# Altium footprint library ESP32-Relay-Module.PcbLib: 41 footprints (part 1 of 3)
Each footprint in its own frame and in the unit in brackets; x right, y up, seen from the top. Pads: shape width x height; smd on the part's side, far side on the other; paste and mask are expansions set on the pad; w line width, h text height; cw(c..) or ccw(c..) is an arc to the next point about the centre after c.
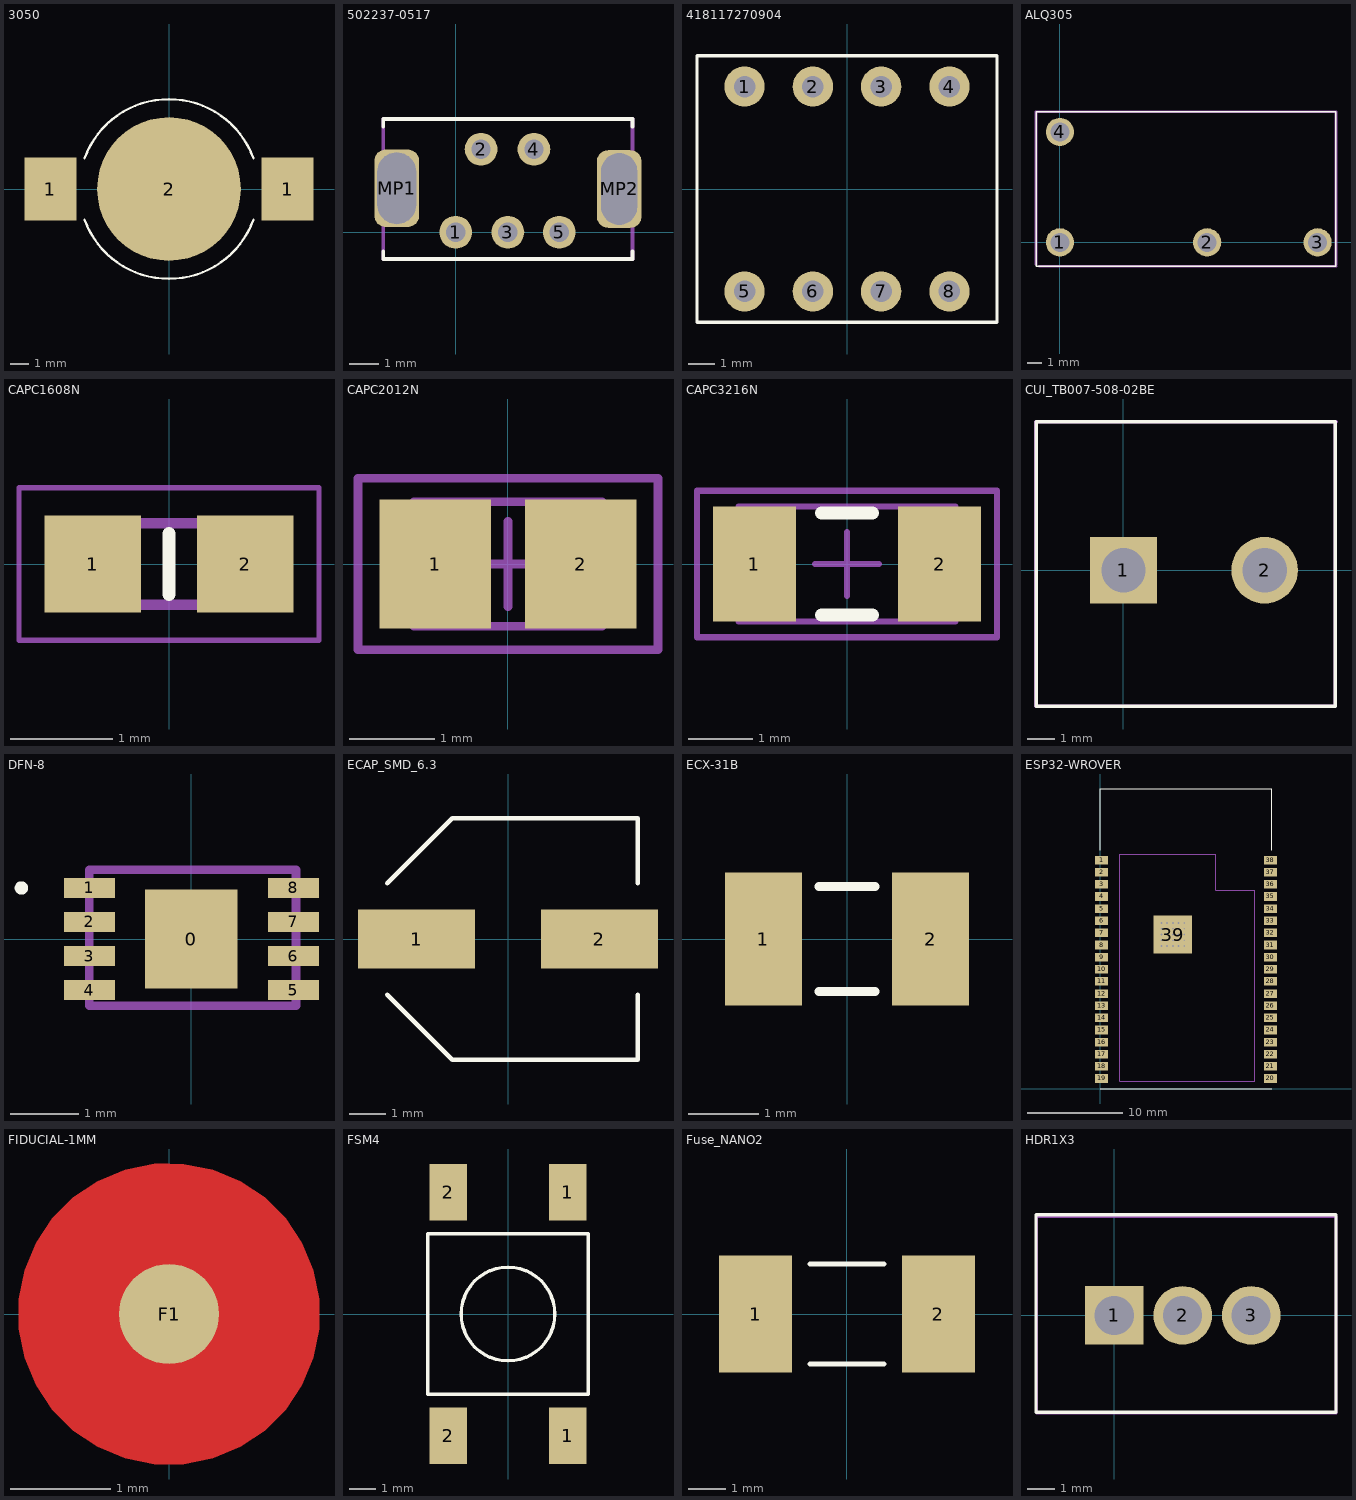
[diagram p0: the footprints below, top view; thin cyan lines are the x and y axes]

## 3050 [mm]
pads (3):
  rect 2.9x3.5 smd mask+0.05: 1(-6.6,0) 1(6.6,0)
  round 8 smd mask+0.05: 2(0,0)
Top Overlay:
  lines w0.127: -4.698,-1.71 ccw(c0,0) 4.698,-1.71 ; -4.698,1.71 cw(c0,0) 4.698,1.71
3D body "CR1025.STEP": height 2.5, standoff 0, extent -5,-5 5,5
3D body "keystone-PN3050.STEP": height 2.95, standoff 0, extent -8.052,-4.608 8.053,4

## 502237-0517 [mm]
pads (7):
  round 1.1 hole 0.65: 1(0,0) 2(0.85,2.783) 3(1.75,0) 4(2.625,2.783) 5(3.475,0)
  rrect50% 1.5x2.6 hole 2.4 slot 1.3 at 0 deg: MP1(-1.975,1.475)
  rrect50% 1.5x2.6 hole 2.4 slot 1.2 at 0 deg: MP2(5.484,1.45)
Top Overlay:
  lines w0.127: -2.425,-0.646 -2.425,-0.9 5.925,-0.9 5.925,-0.646 ; -2.425,3.545 -2.425,3.8 5.925,3.8 5.925,3.545
Mechanical 15:
  lines w0.127: -2.425,-0.9 -2.425,3.8 5.925,3.8 5.925,-0.9 -2.425,-0.9
3D body "5022370517.stp": height 7.9, standoff -2.7, extent -2.425,-0.9 5.925,3.8

## 418117270904 [mm]
pads (8):
  round 1.5 hole 0.8 mask+0.05: 1(-3.81,3.81) 2(-1.27,3.81) 3(1.27,3.81) 4(3.81,3.81) 5(-3.81,-3.81) 6(-1.27,-3.81) 7(1.27,-3.81) 8(3.81,-3.81)
Top Overlay:
  lines w0.127: -5.58,-4.95 -5.58,4.95 5.58,4.95 5.58,-4.95 -5.58,-4.95
3D body "418117270904_Download_STP_418117270904_rev1.stp": height 6.9, standoff -3.65, extent -5.58,-4.95 5.58,4.95

## ALQ305 [mm]
pads (4):
  round 1.95 hole 1.3: 1(0,0) 2(10.16,0) 3(17.78,0) 4(0,7.62)
Top Overlay:
  lines w0.1: -1.651,-1.651 -1.651,9.017 19.05,9.017 19.05,-1.651 -1.651,-1.651
Mechanical 15:
  lines w0.2: -1.651,-1.524 -1.651,9.017 19.05,9.017 19.05,-1.524 ; -1.397,-1.651 19.05,-1.651
3D body "ALQ305.stp": height 15.1, standoff -5, extent -1.245,-1.317 18.755,8.683

## CAPC1608N [mm]
pads (2):
  rrect0% 0.95x0.95 smd: 1(-0.75,0) 2(0.75,0)
Top Overlay:
  lines w0.127: 0,-0.3 0,0.3
Mechanical 15:
  lines w0.05: -1.475,-0.75 -1.475,0.75 1.475,0.75 1.475,-0.75 -1.475,-0.75
  lines w0.1: -0.8,-0.4 0.8,-0.4 0.8,0.4 -0.8,0.4 -0.8,-0.4
3D body "UMK107BJ105KA-T.stp": height 0.81, standoff 0.01, extent -0.85,-0.45 0.75,0.45

## CAPC2012N [mm] "Chip Capacitor, Body 2.0x1.3mm, IPC Medium Density"
height 1.1
pads (2):
  rect 1.3x1.5 smd: 1(-0.85,0) 2(0.85,0)
Mechanical 13:
  lines w0.1: -1.1,-0.725 -1.1,0.725 1.1,0.725 1.1,-0.725 -1.1,-0.725
Mechanical 15:
  lines w0.1: -0.5,0 0.5,0 ; 0,-0.5 0,0.5 ; -1.75,-1 -1.75,1 1.75,1 1.75,-1 -1.75,-1
3D body: height 1.1, standoff 0, extent -1.1,-0.725 1.1,0.725

## CAPC3216N [mm] "Chip Capacitor, Body 3.2x1.6mm, IPC Medium Density"
height 1.35
pads (2):
  rect 1.3x1.8 smd: 1(-1.45,0) 2(1.45,0)
Top Overlay:
  lines w0.2: -0.4,-0.8 0.4,-0.8 ; -0.4,0.8 0.4,0.8
Mechanical 13:
  lines w0.1: -1.7,-0.9 -1.7,0.9 1.7,0.9 1.7,-0.9 -1.7,-0.9
Mechanical 15:
  lines w0.1: -0.5,0 0.5,0 ; 0,-0.5 0,0.5 ; -2.35,-1.15 -2.35,1.15 2.35,1.15 2.35,-1.15 -2.35,-1.15
3D body: height 1.35, standoff 0, extent -1.7,-0.9 1.7,0.9

## CUI_TB007-508-02BE [mm]
pads (2):
  rect 2.4x2.4 hole 1.6: 1(0,0)
  round 2.4 hole 1.6: 2(5.08,0)
Top Overlay:
  lines w0.127: -3.14,-4.9 -3.14,5.35 7.62,5.35 7.62,-4.9 -3.14,-4.9
Mechanical 13:
  lines w0.127: -3.15,-4.9 -3.15,5.35 7.62,5.35 7.62,-4.9 -3.15,-4.9
Mechanical 15:
  lines w0.05: -3.14,5.35 -3.14,-4.9 7.65,-4.9 7.65,5.35
  lines w0.127: -3.14,5.35 7.65,5.35
3D body "CUI_DEVICES_TB007-508-02BE.step": height 14, standoff -3.7, extent -3.14,-4.9 7.62,5.35

## DFN-8 [mm]
pads (9):
  rect 1.36x1.46 smd mask+0.05: 0(0,0)
  rect 0.75x0.3 smd mask+0.05: 1(-1.5,0.75) 2(-1.5,0.25) 3(-1.5,-0.25) 4(-1.5,-0.75) 5(1.5,-0.75) 6(1.5,-0.25) 7(1.5,0.25) 8(1.5,0.75)
Top Overlay:
  circle w0.127: c-2.5,0.75 r0.035
Mechanical 15:
  lines w0.127: -1.502,-0.981 -1.502,1.019 1.538,1.019 1.538,-0.981 -1.502,-0.981
3D body "User Library-DFN-8-2.step": height 0.89, standoff -0.01, extent -1.502,-0.981 1.538,1.019

## ECAP_SMD_6.3 [mm]
pads (2):
  rect 3.2x1.6 smd: 1(-2.5,0) 2(2.5,0)
Top Overlay:
  lines w0.127: -3.3,-1.526 -1.526,-3.3 3.55,-3.3 3.55,-1.524 ; -3.3,1.526 -1.526,3.3 3.55,3.3 3.55,1.524
3D body "CAPSMD6_3x3_9.STEP": height 3.91, standoff 0, extent -3.48,-3.3 3.52,3.3

## ECX-31B [mm]
pads (2):
  rect 1.1x1.9 smd mask+0.05: 1(-1.194,0) 2(1.194,0)
Top Overlay:
  lines w0.127: -0.4,-0.75 0.4,-0.75 ; -0.4,0.75 0.4,0.75
3D body "User Library-ECX-31B.STEP": height 0.9, standoff 0, extent -1.6,-0.737 1.6,0.764

## ESP32-WROVER [mm]
pads (64):
  rect 1.35x0.9 smd mask+0.07: 1(0.175,23.96) 2(0.175,22.69) 3(0.175,21.42) 4(0.175,20.15) 5(0.175,18.88) 6(0.175,17.61) 7(0.175,16.34) 8(0.175,15.07) 9(0.175,13.8) 10(0.175,12.53) 11(0.175,11.26) 12(0.175,9.99) 13(0.175,8.72) 14(0.175,7.45) 15(0.175,6.18) 16(0.175,4.91) 17(0.175,3.64) 18(0.175,2.37) 19(0.175,1.1) 20(17.825,1.1) 21(17.825,2.37) 22(17.825,3.64) 23(17.825,4.91) 24(17.825,6.18) 25(17.825,7.45) 26(17.825,8.72) 27(17.825,9.99) 28(17.825,11.26) 29(17.825,12.53) 30(17.825,13.8) 31(17.825,15.07) 32(17.825,16.34) 33(17.825,17.61) 34(17.825,18.88) 35(17.825,20.15) 36(17.825,21.42) 37(17.825,22.69) 38(17.825,23.96)
  round 0.3 hole 0.2 mask+0.07: 39(6.42,14.97) 39(6.42,15.57) 39(6.42,16.17) 39(6.42,16.77) 39(6.42,17.37) 39(7.02,14.97) 39(7.02,15.57) 39(7.02,16.17) 39(7.02,16.77) 39(7.02,17.37) 39(7.62,14.97) 39(7.62,15.57) 39(7.62,16.17) 39(7.62,16.77) 39(7.62,17.37) 39(8.22,14.97) 39(8.22,15.57) 39(8.22,16.17) 39(8.22,16.77) 39(8.22,17.37) 39(8.82,14.97) 39(8.82,15.57) 39(8.82,16.17) 39(8.82,16.77) 39(8.82,17.37)
  rect 4x4 smd mask+0.07: 39(7.62,16.17)
Top Overlay:
  lines w0.127: 0,0 18,0 ; 0,25 0,31.4 18,31.4 18,25
Mechanical 13:
  lines w0.127: 2.057,0.813 16.18,0.813 16.18,20.777 12.09,20.777 12.09,24.587 2.057,24.587 2.057,0.813
3D body "ESP32-WROVER-I--3DModel-STEP-56544.STEP": height 3.65, standoff 0, extent 0,0 18,31.4

## FIDUCIAL-1MM [mm] "1MM FIDUCAL MARKER"
pads (1):
  round 1 smd paste-1 mask+0.5: F1(0,0)
Top Layer:
  pour cut-out: -1.5,0 -1.5,-0.148 -1.442,-0.438 -1.329,-0.711 -1.165,-0.956 -0.956,-1.165 -0.711,-1.329 -0.438,-1.442 -0.148,-1.5 0,-1.5 0.148,-1.5 0.438,-1.442 0.711,-1.329 0.956,-1.165 1.165,-0.956 1.329,-0.711 1.442,-0.438 1.5,-0.148 1.5,0 1.5,0.148 1.442,0.438 1.329,0.711 1.165,0.956 0.956,1.165 0.711,1.329 0.438,1.442 0.148,1.5 0,1.5 -0.148,1.5 -0.438,1.442 -0.711,1.329 -0.956,1.165 -1.165,0.956 -1.329,0.711 -1.442,0.438 -1.5,0.148

## FSM4 [mm]
pads (4):
  rect 1.4x2.1 smd mask+0.07: 1(2.23,-4.55) 1(2.23,4.55) 2(-2.23,-4.55) 2(-2.23,4.55)
Top Overlay:
  circle w0.127: c0,0 r1.75
  lines w0.127: -3,-3 3,-3 3,3 -3,3 -3,-3
3D body "c-4-1437565-2-s-3d.stp": height 5.1, standoff 0.02, extent -3,-5 3,5

## Fuse_NANO2 [mm]
pads (2):
  rect 1.96x3.15 smd mask+0.07: 1(-2.455,0) 2(2.455,0)
Top Overlay:
  lines w0.127: -1,-1.345 1,-1.345 ; -1,1.345 1,1.345
3D body "User Library-FUSE_NANO2.step": height 2.7, standoff 0, extent -3.05,-1.35 3.05,1.35

## HDR1X3 [mm]
pads (3):
  rect 2.175x2.175 / inner round 2.175 / far side rect 2.175x2.175 hole 1.45: 1(0,0)
  round 2.175 hole 1.45: 2(2.54,0) 3(5.08,0)
Top Overlay:
  lines w0.125: -2.9,-3.6 -2.9,3.725 8.225,3.725 8.225,-3.6 -2.9,-3.6
Mechanical 15:
  lines w0.1: -2.875,-3.625 8.225,-3.625 8.225,3.654 -2.875,3.654 -2.875,-3.625
3D body "90136-1103.stp": height 10.85, standoff -2.95, extent -2.818,-3.556 8.152,3.654